# Altium schematic symbol library aruna_pcb_card.SchLib: 42 symbols
Pins are listed as number, name and electrical type; pins without a type are passive.

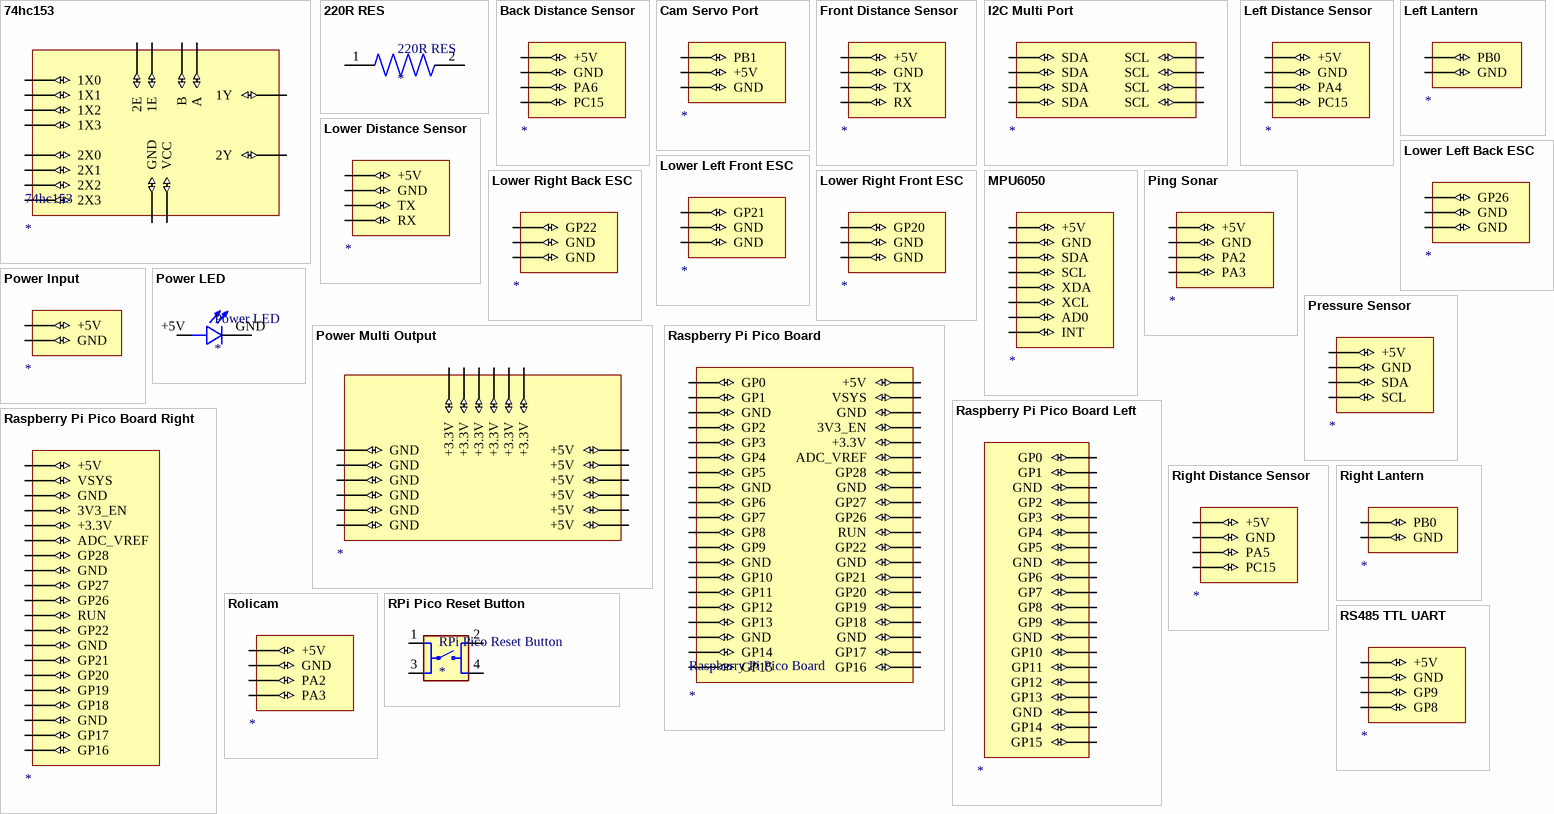
[diagram p0: symbols 74hc153 to RS485 TTL UART]

## 74hc153
designator 74hc153
footprint 74HC153 (Footprint not found)
pins: 1E (io), 1X0 (io), 1X1 (io), 1X2 (io), 1X3 (io), 1Y (io), 2E (io), 2X0 (io), 2X1 (io), 2X2 (io), 2X3 (io), 2Y (io), +5V VCC (io), A (io), B (io), GND (io)

## 220R RES
designator 220R RES
MF: TE Connectivity; MP: 3-1623927-1; Price: None; SnapEDA_Link: https://www.snapeda.com/parts/3-1623927-1/TE+Connectivity/view-part/?ref=snap; Check_prices: https://www.snapeda.com/parts/3-1623927-1/TE+Connectivity/view-part/?ref=eda; Value: *; Package: None; Availability: In Stock
footprint RES
pins: 1, 2

## Back Distance Sensor
designator Back Distance Sensor
footprint Back Distance Sensor
pins: +5V (io), GND (io), RX PC15 (io), TX PA6 (io)

## Cam Servo Port
designator Cam Servo Port
footprint Cam Servo Port
pins: +5V (io), GND (io), PWM PB1 (io)

## Front Distance Sensor
designator Front Distance Sensor
footprint Front Distance Sensor
pins: +5V (io), GND (io), RX (io), TX (io)

## I2C Multi Port
designator I2C Multi Port
footprint I2C Multi Port
pins: SCL (io), SCL_2 SCL (io), SCL_3 SCL (io), SCL_4 SCL (io), SDA (io), SDA_2 SDA (io), SDA_3 SDA (io), SDA_4 SDA (io)

## Left Distance Sensor
designator Left Distance Sensor
footprint Left Distance Sensor
pins: +5V (io), GND (io), RX PC15 (io), TX PA4 (io)

## Left Lantern
designator Left Lantern
footprint Left Lantern Port
pins: GND (io), PWM PB0 (io)

## Lower Distance Sensor
designator Lower Distance Sensor
footprint Lower Distance Sensor
pins: +5V (io), GND (io), RX (io), TX (io)

## Lower Left Back ESC
designator Lower Left Back ESC
footprint Lower Left Back ESC
pins: GND (io), GND (io), SIG GP26 (io)

## Lower Left Front ESC
designator Lower Left Front ESC
footprint Lower Left Front ESC
pins: GND (io), GND (io), SIG GP21 (io)

## Lower Right Back ESC
designator Lower Right Back ESC
footprint Lower Right Back ESC
pins: GND (io), GND (io), SIG GP22 (io)

## Lower Right Front ESC
designator Lower Right Front ESC
footprint Lower Right Front ESC
pins: GND (io), GND (io), SIG GP20 (io)

## MPU6050
designator MPU6050
footprint MPU6050
pins: +5V (io), AD0 (io), GND (io), INT (io), SCL (io), SDA (io), XCL (io), XDA (io)

## Ping Sonar
designator Ping Sonar
footprint Ping Sonar
pins: +5V (io), GND (io), RX PA3 (io), TX PA2 (io)

## Power Input
designator Power Input
footprint Power Input
pins: +5V (io), GND (io)

## Power LED
designator Power LED
MP: TSAL6200; MF: Vishay; Price: None; SnapEDA_Link: https://www.snapeda.com/parts/TSAL6200/Vishay%20Semiconductor%20Opto%20Division/view-part/1186623/?ref=snap; Package: Radial Vishay; Availability: Unavailable; Value: *
footprint POWER LED
pins: +5V +, GND -

## Power Multi Output
designator Power Multi Output
footprint Power Multi Output
pins: +3.3V (io), +3.3V_2 +3.3V (io), +3.3V_3 +3.3V (io), +3.3V_4 +3.3V (io), +3.3V_5 +3.3V (io), +3.3V_6 +3.3V (io), +5V (io), +5V_2 +5V (io), +5V_3 +5V (io), +5V_4 +5V (io), +5V_5 +5V (io), +5V_6 +5V (io), GND (io), GND_2 GND (io), GND_3 GND (io), GND_4 GND (io), GND_5 GND (io), GND_6 GND (io)

## Pressure Sensor
designator Pressure Sensor
footprint Pressure Sensor
pins: +5V (io), GND (io), SCL (io), SDA (io)

## Raspberry Pi Pico Board
designator Raspberry Pi Pico Board
footprint RASPBERRY PI PICO BOARD
pins: 3V3_EN (io), +3.3V (io), +5V (io), ADC_VREF (io), GND (io), GND (io), GND (io), GND (io), GND (io), GND (io), GND (io), GND (io), GP0 (io), GP1 (io), GP2 (io), GP3 (io), GP4 (io), GP5 (io), GP6 (io), GP7 (io), GP8 (io), GP9 (io), GP10 (io), GP11 (io), GP12 (io), GP13 (io), GP14 (io), GP15 (io), GP16 (io), GP17 (io), GP18 (io), GP19 (io), GP20 (io), GP21 (io), GP22 (io), GP26 (io), GP27 (io), GP28 (io), RUN (io), VSYS (io)

## Raspberry Pi Pico Board Left
designator Raspberry Pi Pico Board Left
footprint Raspberry Pi Pico Board Left
pins: GND (io), GND (io), GND (io), GND (io), GP0 (io), GP1 (io), GP2 (io), GP3 (io), GP4 (io), GP5 (io), GP6 (io), GP7 (io), GP8 (io), GP9 (io), GP10 (io), GP11 (io), GP12 (io), GP13 (io), GP14 (io), GP15 (io)

## Raspberry Pi Pico Board Right
designator Raspberry Pi Pico Board Right
footprint Raspberry Pi Pico Board Right
pins: 3V3_EN (io), +3.3V (io), +5V (io), ADC_VREF (io), GND (io), GND (io), GND (io), GND (io), GP16 (io), GP17 (io), GP18 (io), GP19 (io), GP20 (io), GP21 (io), GP22 (io), GP26 (io), GP27 (io), GP28 (io), RUN (io), VSYS (io)

## Right Distance Sensor
designator Right Distance Sensor
footprint Right Distance Sensor
pins: +5V (io), GND (io), RX PC15 (io), TX PA5 (io)

## Right Lantern
designator Right Lantern
footprint Right Lantern Port
pins: GND (io), PWM PB0 (io)

## Rolicam
designator Rolicam
footprint Rolicam
pins: +5V (io), GND (io), RX PA3 (io), TX PA2 (io)

## RPi Pico Reset Button
designator RPi Pico Reset Button
MP: FSM8JH; MF: TE Connectivity; Check_prices: https://www.snapeda.com/parts/FSM8JH/TE+Connectivity+ALCOSWITCH+Switches/view-part/?ref=eda; Value: *; Availability: In Stock; Price: None; Package: None; SnapEDA_Link: https://www.snapeda.com/parts/FSM8JH/TE+Connectivity+ALCOSWITCH+Switches/view-part/?ref=snap
footprint RPI PICO RESET BUTTON
pins: 1, 2, 3, 4

## RS485 TTL UART
designator RS485 TTL UART
footprint RS485 TTL UART
pins: +5V (io), GND (io), RX GP8 (io), TX GP9 (io)

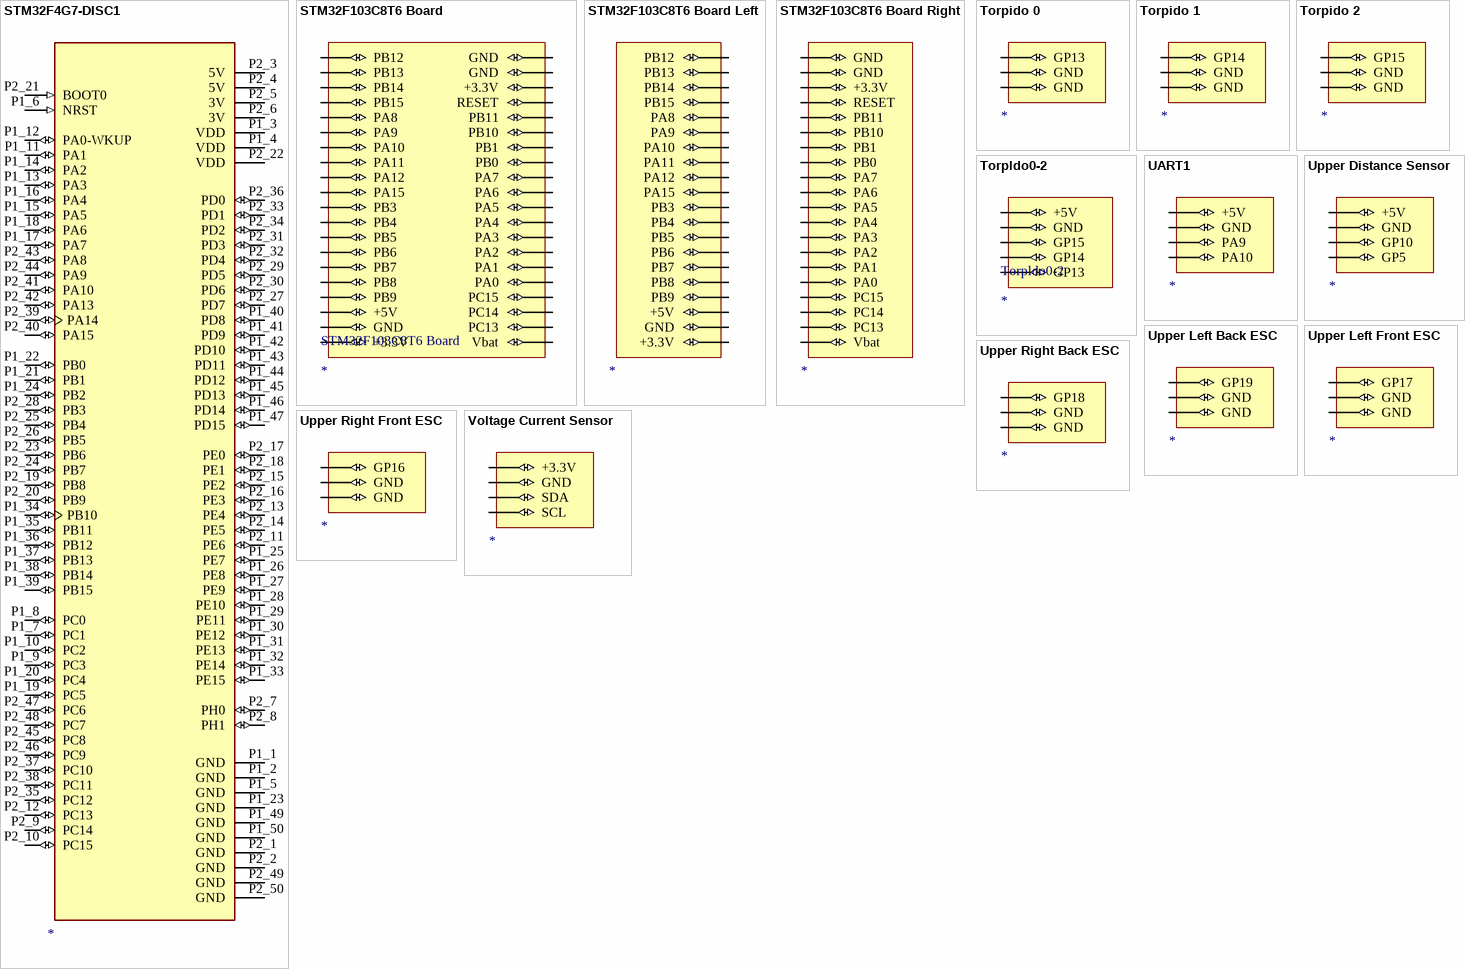
[diagram p1: symbols STM32F4G7-DISC1 to Voltage Current Sensor]

## STM32F4G7-DISC1
designator STM32F4G7-DISC1
Development kit: ARM ST; pin strips, pin header; No.of; MP: STM32F4DISCOVERY; Availability: Unavailable; Value: *; Price: None; Package: None
footprint STM32F407G-DISC1
pins: P1_1 GND (power), P1_2 GND (power), P1_3 VDD (power), P1_4 VDD (power), P1_5 GND (power), P1_6 NRST (in), P1_7 PC1 (io), P1_8 PC0 (io), P1_9 PC3 (io), P1_10 PC2 (io), P1_11 PA1 (io), P1_12 PA0-WKUP (io), P1_13 PA3 (io), P1_14 PA2 (io), P1_15 PA5 (io), P1_16 PA4 (io), P1_17 PA7 (io), P1_18 PA6 (io), P1_19 PC5 (io), P1_20 PC4 (io), P1_21 PB1 (io), P1_22 PB0 (io), P1_23 GND (power), P1_24 PB2 (io), P1_25 PE7 (io), P1_26 PE8 (io), P1_27 PE9 (io), P1_28 PE10 (io), P1_29 PE11 (io), P1_30 PE12 (io), P1_31 PE13 (io), P1_32 PE14 (io), P1_33 PE15 (io), P1_34 PB10 (io), P1_35 PB11 (io), P1_36 PB12 (io), P1_37 PB13 (io), P1_38 PB14 (io), P1_39 PB15 (io), P1_40 PD8 (io), P1_41 PD9 (io), P1_42 PD10 (io), P1_43 PD11 (io), P1_44 PD12 (io), P1_45 PD13 (io), P1_46 PD14 (io), P1_47 PD15 (io), P1_49 GND (power), P1_50 GND (power), P2_1 GND (power), P2_2 GND (power), P2_3 5V (power), P2_4 5V (power), P2_5 3V (power), P2_6 3V (power), P2_7 PH0 (io), P2_8 PH1 (io), P2_9 PC14 (io), P2_10 PC15 (io), P2_11 PE6 (io), P2_12 PC13 (io), P2_13 PE4 (io), P2_14 PE5 (io), P2_15 PE2 (io), P2_16 PE3 (io), P2_17 PE0 (io), P2_18 PE1 (io), P2_19 PB8 (io), P2_20 PB9 (io), P2_21 BOOT0 (in), P2_22 VDD (power), P2_23 PB6 (io), P2_24 PB7 (io), P2_25 PB4 (io), P2_26 PB5 (io), P2_27 PD7 (io), P2_28 PB3 (io), P2_29 PD5 (io), P2_30 PD6 (io), P2_31 PD3 (io), P2_32 PD4 (io), P2_33 PD1 (io), P2_34 PD2 (io), P2_35 PC12 (io), P2_36 PD0 (io), P2_37 PC10 (io), P2_38 PC11 (io), P2_39 PA14 (io), P2_40 PA15 (io), P2_41 PA10 (io), P2_42 PA13 (io), P2_43 PA8 (io), P2_44 PA9 (io), P2_45 PC8 (io), P2_46 PC9 (io), P2_47 PC6 (io), P2_48 PC7 (io), P2_49 GND (power), P2_50 GND (power)

## STM32F103C8T6 Board
designator STM32F103C8T6 Board
footprint STM32F103C8T6 Board
pins: +3.3V (io), +3.3V_2 +3.3V (io), +5V (io), GND (io), GND_2 GND (io), GND_3 GND (io), PA0 (io), PA1 (io), PA2 (io), PA3 (io), PA4 (io), PA5 (io), PA6 (io), PA7 (io), PA8 (io), PA9 (io), PA10 (io), PA11 (io), PA12 (io), PA15 (io), PB0 (io), PB1 (io), PB3 (io), PB4 (io), PB5 (io), PB6 (io), PB7 (io), PB8 (io), PB9 (io), PB10 (io), PB11 (io), PB12 (io), PB13 (io), PB14 (io), PB15 (io), PC13 (io), PC14 (io), PC15 (io), RESET (io), Vbat (io)

## STM32F103C8T6 Board Left
designator STM32F103C8T6 Board Left
footprint STM32F103C8T6 Board Left
pins: +3.3V (io), +5V (io), GND (io), PA8 (io), PA9 (io), PA10 (io), PA11 (io), PA12 (io), PA15 (io), PB3 (io), PB4 (io), PB5 (io), PB6 (io), PB7 (io), PB8 (io), PB9 (io), PB12 (io), PB13 (io), PB14 (io), PB15 (io)

## STM32F103C8T6 Board Right
designator STM32F103C8T6 Board
footprint STM32F103C8T6 Board Right
pins: +3.3V_2 +3.3V (io), GND_2 GND (io), GND_3 GND (io), PA0 (io), PA1 (io), PA2 (io), PA3 (io), PA4 (io), PA5 (io), PA6 (io), PA7 (io), PB0 (io), PB1 (io), PB10 (io), PB11 (io), PC13 (io), PC14 (io), PC15 (io), RESET (io), Vbat (io)

## Torpido 0
designator Torpido 0
footprint TORPIDO 0
pins: GND (io), GND (io), SIG GP13 (io)

## Torpido 1
designator Torpido 1
footprint TORPIDO 1
pins: GND (io), GND (io), SIG GP14 (io)

## Torpido 2
designator Torpido 2
footprint TORPIDO 2
pins: GND (io), GND (io), SIG GP15 (io)

## Torpldo0-2
designator Torpldo0-2
footprint Torpido0-2
pins: +5V (io), GND (io), IN0 GP15 (io), IN1 GP14 (io), IN2 GP13 (io)

## UART1
designator UART1
footprint UART1
pins: +5V (io), GND (io), RX PA10 (io), TX PA9 (io)

## Upper Distance Sensor
designator Upper Distance Sensor
footprint Upper Distance Sensor
pins: +5V (io), GND (io), RX GP5 (io), TX GP10 (io)

## Upper Left Back ESC
designator Upper Left Back ESC
footprint Upper Left Back ESC
pins: GND (io), GND (io), SIG GP19 (io)

## Upper Left Front ESC
designator Upper Left Front ESC
footprint Upper Left Front ESC
pins: GND (io), GND (io), SIG GP17 (io)

## Upper Right Back ESC
designator Upper Right Back ESC
footprint Upper Right Back ESC
pins: GND (io), GND (io), SIG GP18 (io)

## Upper Right Front ESC
designator Upper Right Front ESC
footprint Upper Right Front ESC
pins: GND (io), GND (io), SIG GP16 (io)

## Voltage Current Sensor
designator Voltage Current Sensor
footprint Voltage Current Sensor
pins: +3.3V (io), GND (io), SCL (io), SDA (io)